# Altium footprint library DIO-DO.PcbLib: 1 footprints
Each footprint in its own frame and in the unit in brackets; x right, y up, seen from the top. Pads: shape width x height; smd on the part's side, far side on the other; paste and mask are expansions set on the pad; w line width, h text height; cw(c..) or ccw(c..) is an arc to the next point about the centre after c.
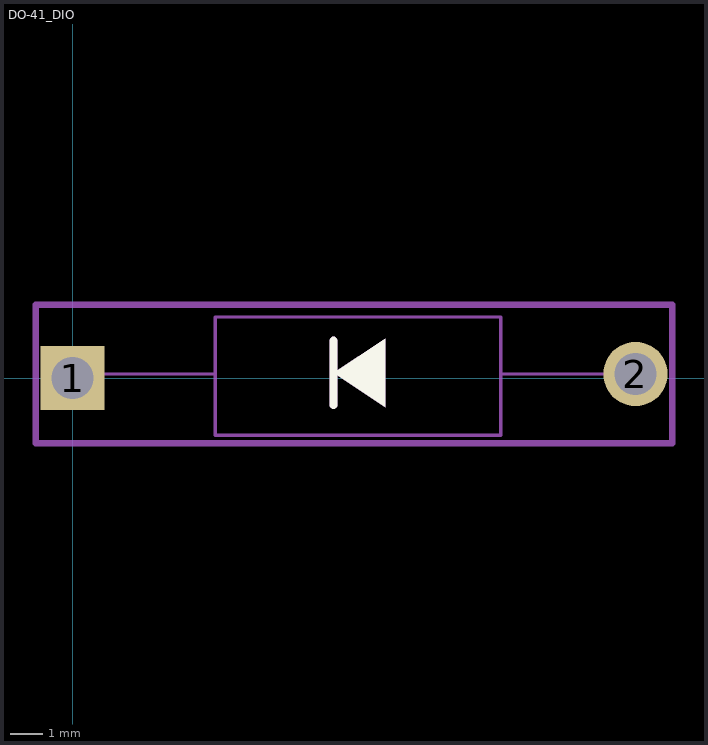
[diagram p0: the footprint, top view; thin cyan lines are the x and y axes]

## DO-41_DIO [mm]
pads (2):
  rect 2x2 hole 1.3 mask+0: 1(0,0)
  round 2 hole 1.3 mask+0: 2(17.526,0.127)
Top Overlay:
  region: 9.729,-0.906 9.729,1.227 8.129,0.16
  lines w0.254: 8.129,-0.84 8.129,1.16
Top Assembly:
  region: 9.729,-0.906 9.729,1.227 8.129,0.16
  lines w0.1: 0,0.127 4.445,0.127 ; 13.335,0.127 17.653,0.127 ; 4.445,-1.778 13.335,-1.778 13.335,1.905 4.445,1.905 4.445,-1.778
  lines w0.254: 8.129,-0.84 8.129,1.16
Top Component Outline:
  lines w0.2: -1.143,-2.032 18.669,-2.032 18.669,2.286 -1.143,2.286 -1.143,-2.032
3D body "CASE_17AA-01_ONS.step": height 3.68, standoff -2.54, extent -0.597,-1.783 18.123,1.905